# Altium footprint library pcb_components.PcbLib: 10 footprints
Each footprint in its own frame and in the unit in brackets; x right, y up, seen from the top. Pads: shape width x height; smd on the part's side, far side on the other; paste and mask are expansions set on the pad; w line width, h text height; cw(c..) or ccw(c..) is an arc to the next point about the centre after c.
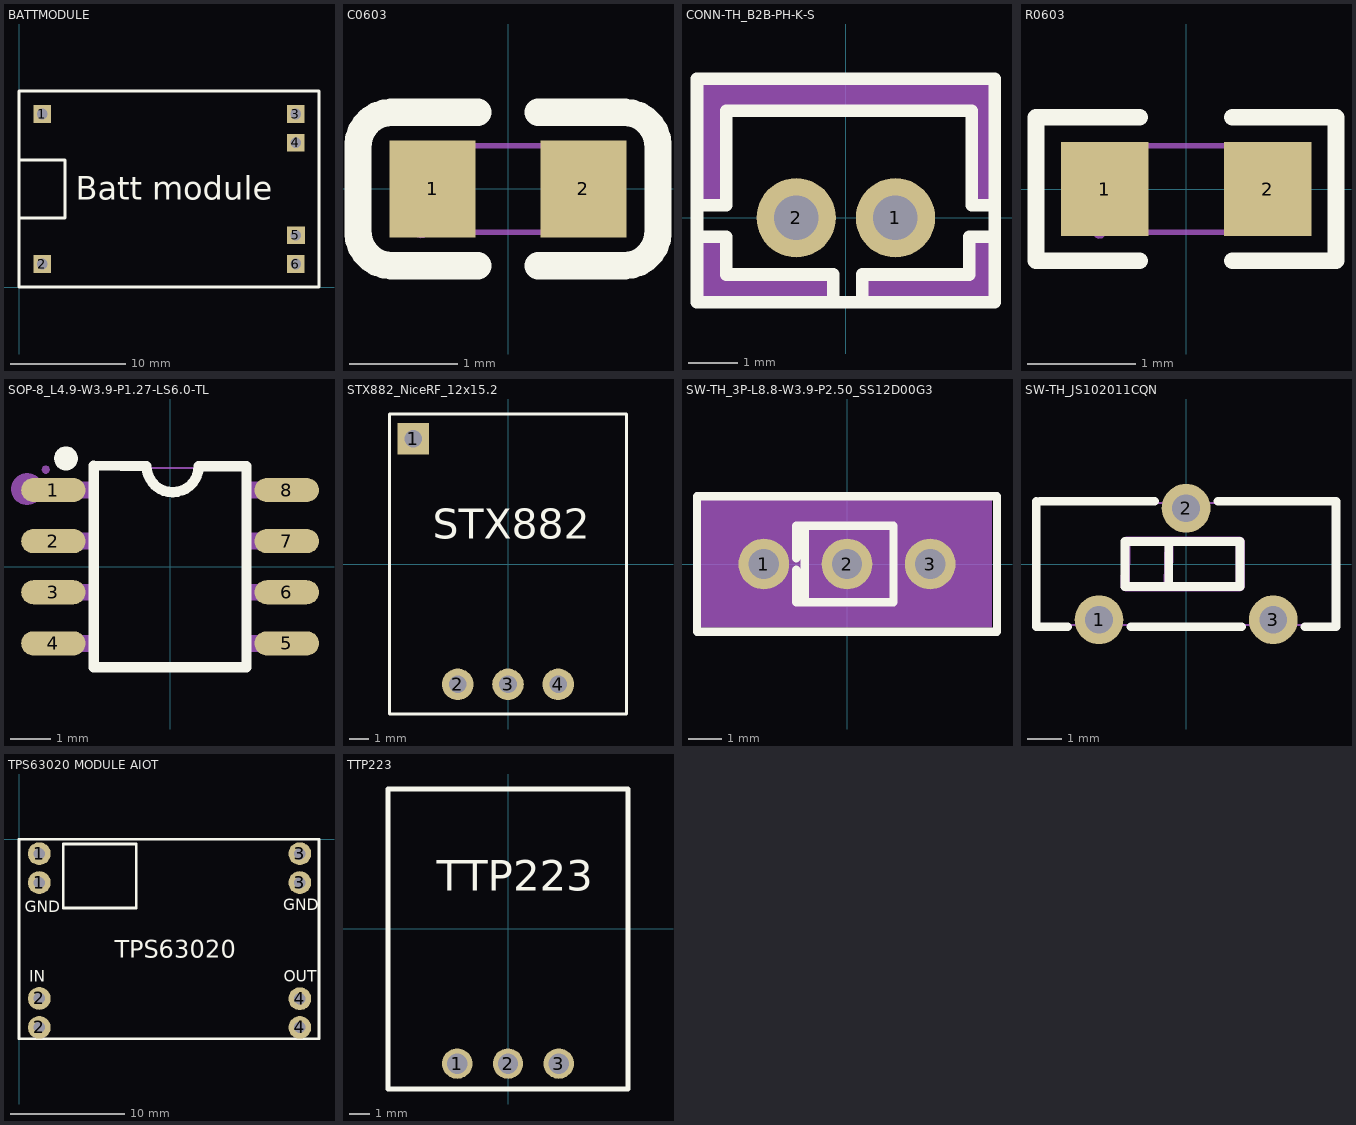
[diagram p0: the footprints below, top view; thin cyan lines are the x and y axes]

## BATTMODULE [mil]
pads (6):
  rect 60x60 hole 36 paste-99999 mask+4: 1(78.8,590.5) 2(78.8,78.7) 3(944.9,590.5) 4(944.9,492.1) 5(945,177.1) 6(944.9,78.7)
Top Overlay:
  lines w10: 0,236.2 157.5,236.2 157.5,433.1 0,433.1 ; 39.4,0 0,0 ; 0,0 1023.6,0 1023.6,669.3 0,669.3 0,0
  text "Batt module" at 193,298 h80

## C0603 [mil]
pads (2):
  rect 31.5x35.4 smd: 1(-27.6,0) 2(27.5,0)
Top Overlay:
  lines w10: -11.1,-28 -42.6,-28 -45.3,-27.7 -47.9,-26.8 -50.2,-25.3 -52.1,-23.4 -53.6,-21.1 -54.5,-18.5 -54.8,-15.8 -54.8,15.7 -54.5,18.4 -53.6,21 -52.1,23.3 -50.2,25.3 -47.9,26.7 -45.3,27.6 -42.6,27.9 -11.1,27.9 ; 11,-28 42.5,-28 45.2,-27.7 47.8,-26.8 50.1,-25.3 52,-23.4 53.5,-21.1 54.4,-18.5 54.7,-15.8 54.7,15.7 54.4,18.4 53.5,21 52,23.3 50.1,25.2 47.8,26.7 45.2,27.6 42.5,27.9 11,27.9
Mechanical 7:
  lines w2: -31.5,-15.8 31.5,-15.8 31.5,15.7 -31.5,15.7 -31.5,-15.8
Mechanical 8:
  region: -29.2,-15.8 -29.6,-17.1 -30.6,-17.9 -31.9,-18.1 -33.1,-17.6 -33.8,-16.5 -33.8,-15.1 -33.1,-14 -31.9,-13.5 -30.6,-13.6 -29.6,-14.5
Mechanical 9:
  region: 31.5,-15.8 31.5,15.7 19.6,15.7 19.6,-15.8
  region: -31.5,-15.8 -31.5,15.7 -19.7,15.7 -19.7,-15.8

## CONN-TH_B2B-PH-K-S [mil]
pads (2):
  round 63 hole 35.4: 1(39.4,0) 2(-39.4,0)
Top Overlay:
  lines w10: -115,-15 -95,-15 -95,-45 -10,-45 -10,-65 ; -115,10 -95,10 -95,85 100,85 100,10 115,10 ; 13.1,-65 13.1,-45 98.1,-45 98.1,-15 118.1,-15 ; -118.1,-66.9 -118.1,110.3 118.1,110.3 118.1,-66.9 -118.1,-66.9
Mechanical 6:
  region: -10,-45 -10,-65 -115,-65 -115,-15 -95,-15 -95,-45
  region: 118.1,-15 98.1,-15 98.1,-45 13.1,-45 13.1,-65 120,-65
  region: 115,10 100,10 100,85 -95,85 -95,10 -115,10 -115,110 115,110
Mechanical 7:
  lines w2: -116.1,-66.9 116.1,-66.9 116.1,110.3 -116.1,110.3 -116.1,-66.9
Mechanical 8:
  region: 118.5,110.3 118.1,109 117.1,108.1 115.8,107.9 114.6,108.5 113.9,109.6 113.9,110.9 114.6,112 115.8,112.6 117.1,112.4 118.1,111.5
Mechanical 9:
  region: -29.5,-9.8 -49.2,-9.8 -49.2,9.9 -29.5,9.9
  region: 49.2,-9.8 29.5,-9.8 29.5,9.9 49.2,9.9

## R0603 [mil]
pads (2):
  rect 31.8x34 smd paste-3937 mask+2: 1(-29.6,0) 2(29.7,0)
Top Overlay:
  lines w6: -16.8,-26 -54.5,-26 -54.5,26 -16.8,26 ; 16.8,-26 54.5,-26 54.5,26 16.8,26
Top Paste:
  region: -47,-17.7 -15.5,-17.7 -13.6,-15.7 -13.6,-6.8 -28.1,-6.8 -28.1,6.2 -13.6,6.2 -13.6,15.8 -15.5,17.7 -47,17.7 -49,15.8 -49,-15.7
  region: 47.1,17.7 15.6,17.7 13.6,15.8 13.6,6.8 28.2,6.8 28.2,-6.2 13.6,-6.2 13.6,-15.7 15.6,-17.7 47.1,-17.7 49,-15.7 49,15.8
Mechanical 7:
  lines w2: -31.5,-15.7 31.5,-15.7 31.5,15.8 -31.5,15.8 -31.5,-15.7
Mechanical 8:
  region: -29.1,-15.7 -29.5,-17 -30.5,-17.9 -31.8,-18.1 -33,-17.5 -33.7,-16.4 -33.7,-15.1 -33,-13.9 -31.8,-13.4 -30.5,-13.6 -29.5,-14.5
Mechanical 9:
  region: 31.5,-15.7 31.5,15.8 19.7,15.8 19.7,-15.7
  region: -31.5,-15.7 -31.5,15.8 -19.7,15.8 -19.7,-15.7

## SOP-8_L4.9-W3.9-P1.27-LS6.0-TL [mil]
pads (8):
  oval 63x23.6 smd: 1(-114.2,75) 2(-114.2,25) 3(-114.2,-25) 4(-114.2,-75) 5(114.2,-75) 6(114.2,-25) 7(114.2,25) 8(114.2,75)
Top Overlay:
  lines w10: -75,99 -23,98.4 -22.6,94 -21.5,89.7 -19.6,85.7 -17,82 -13.9,78.9 -10.3,76.3 -6.2,74.4 -1.9,73.3 2.5,72.9 6.9,73.3 11.2,74.5 15.2,76.3 18.9,78.9 22,82 24.6,85.7 26.4,89.7 27.6,94 28,98.4 74.8,98.4 74.8,-98.4 -74.8,-98.4 -74.8,98.4
  lines w11.8: -96,105.9 -96.4,103.9 -97.4,102.1 -99,100.8 -100.9,100.1 -103,100.1 -104.9,100.8 -106.5,102.2 -107.5,103.9 -107.8,106 -107.5,108 -106.5,109.7 -104.9,111.1 -103,111.8 -100.9,111.8 -99,111.1 -97.4,109.8 -96.4,108 -96,106
Mechanical 6:
  lines w15.7: -147.9,76 -147.5,73.6 -146.4,71.4 -144.6,69.6 -142.5,68.5 -140,68.1 -137.6,68.5 -135.4,69.6 -133.7,71.4 -132.5,73.6 -132.1,76 -132.5,78.4 -133.7,80.6 -135.4,82.4 -137.6,83.5 -140,83.9 -142.5,83.5 -144.6,82.4 -146.4,80.6 -147.5,78.4 -147.9,76
Mechanical 7:
  lines w2: -76.8,-96.5 76.7,-96.5 76.7,96.5 -76.8,96.5 -76.8,-96.5
Mechanical 8:
  region: -117.7,95 -118.1,93.3 -119.2,91.9 -120.8,91.2 -122.5,91.2 -124.1,91.9 -125.2,93.3 -125.6,95 -125.2,96.7 -124.1,98.1 -122.5,98.8 -120.8,98.8 -119.2,98.1 -118.1,96.7
Mechanical 9:
  region: -121.6,-66.7 -88.7,-66.7 -88.7,-83.3 -121.6,-83.3
  region: -121.6,-16.7 -88.7,-16.7 -88.7,-33.3 -121.6,-33.3
  region: -121.6,33.3 -88.7,33.3 -88.7,16.7 -121.6,16.7
  region: -121.6,83.3 -88.7,83.3 -88.7,66.7 -121.6,66.7
  region: 121.4,66.7 88.5,66.7 88.5,83.3 121.4,83.3
  region: 121.4,16.7 88.5,16.7 88.5,33.3 121.4,33.3
  region: 121.4,-33.3 88.5,-33.3 88.5,-16.7 121.4,-16.7
  region: 121.4,-83.3 88.5,-83.3 88.5,-66.7 121.4,-66.7
Mechanical 10:
  region: -89,-67 -76,-67 -76,-83 -89,-83
  region: -89,-17 -76,-17 -76,-33 -89,-33
  region: -89,33 -76,33 -76,17 -89,17
  region: -89,83 -76,83 -76,67 -89,67
  region: 89,67 76,67 76,83 89,83
  region: 89,17 76,17 76,33 89,33
  region: 89,-33 76,-33 76,-17 89,-17
  region: 89,-83 76,-83 76,-67 89,-67

## STX882_NiceRF_12x15.2 [mil]
pads (4):
  rect 63x63 hole 35: 1(-189,250)
  round 63 hole 35: 2(-100,-240) 3(0,-240) 4(100,-240)
Top Overlay:
  lines w6: -236,-299 236,-299 236,299 -236,299 -236,-299
  text "STX882" at -150,50 h60

## SW-TH_3P-L8.8-W3.9-P2.50_SS12D00G3 [mil]
pads (3):
  round 60 hole 36 paste-99999 mask+2: 1(-98.4,0) 2(0,0) 3(98.4,0)
Top Overlay:
  lines w10: -60,-6.7 -60,-45 -50,-45 ; -60,6.8 -60,45 -46.6,45 ; -50,-45 55,-45 55,45 -50,45 -50,-45 ; -177.5,-80 177.5,-80 177.5,80 -177.5,80 -177.5,-80
Mechanical 6:
  region: -65,-45 -65,50 -55,50 -55,-40 -60,-40
  region: -65,-40 50,-40 50,40 -55,40 -55,50 55,50 60,50 60,-50 -65,-50
  region: -45,-40 -35,-40 -35,45 -45,45
Mechanical 7:
  region: -175,-75 -175,78.6 171.5,78.6 171.5,-75
Mechanical 8:
  region: -173.8,-75 -174.2,-75.8 -175,-76.1 -175.8,-75.8 -176.2,-75 -175.8,-74.1 -175,-73.8 -174.2,-74.1
Mechanical 9:
  region: -108.3,5.9 -88.6,5.9 -88.6,-5.9 -108.3,-5.9
  region: -9.8,5.9 9.8,5.9 9.8,-5.9 -9.8,-5.9
  region: 88.6,5.9 108.3,5.9 108.3,-5.9 88.6,-5.9

## SW-TH_JS102011CQN [mil]
pads (3):
  round 55.1 hole 31.5: 1(-98.4,-63) 2(0,63) 3(98.4,-63)
Top Overlay:
  lines w10: -169.3,70.9 -169.3,-70.9 -134.2,-70.9 ; -165.3,70.9 -35.8,70.9 ; -62.6,-70.9 62.6,-70.9 ; -19.7,-23.6 -19.7,23.6 ; 35.8,70.9 169.3,70.9 169.3,-70.9 134.2,-70.9 ; -68.9,-25.6 -68.9,25.6 61,25.6 61,-25.6 -68.9,-25.6
Mechanical 6:
  region: -68.1,30.6 61,30.6 63,30.2 64.6,29.1 65.7,27.5 66,25.6 66,-25.6 65.7,-27.5 64.6,-29.1 63,-30.2 61,-30.6 -68.9,-30.6 -70.8,-30.2 -72.4,-29.1 -73.5,-27.5 -73.9,-25.6 -73.5,-23.7 -72.4,-22.1 -70.8,-21 -68.9,-20.6 56,-20.6 56,20.6 -68.1,20.6 -70,21 -71.6,22.1 -72.7,23.7 -73.1,25.6 -72.7,27.5 -71.6,29.1 -70,30.2
  region: -14.3,25.9 -15.1,-23.7 -15.5,-25.6 -16.6,-27.2 -18.3,-28.2 -20.2,-28.5 -22.1,-28.1 -23.7,-27 -24.7,-25.4 -25.1,-23.5 -24.3,26.1 -23.9,28 -22.7,29.6 -21.1,30.6 -19.2,30.9 -17.3,30.5 -15.7,29.4 -14.6,27.8 -14.3,25.9
  region: -62.9,24.1 -63.7,-25.5 -64.1,-27.4 -65.3,-29 -66.9,-30.1 -68.8,-30.4 -70.7,-30 -72.3,-28.9 -73.4,-27.3 -73.7,-25.4 -72.9,24.2 -72.5,26.2 -71.4,27.8 -69.8,28.8 -67.9,29.2 -65.9,28.8 -64.3,27.6 -63.3,26
Mechanical 7:
  lines w2: -167.3,-68.9 -167.3,68.9 167.3,68.9 167.3,-68.9 -167.3,-68.9
Mechanical 8:
  region: -164.9,-68.9 -165.3,-70.2 -166.3,-71 -167.6,-71.2 -168.9,-70.7 -169.6,-69.6 -169.6,-68.2 -168.9,-67.1 -167.6,-66.6 -166.3,-66.7 -165.3,-67.6
Mechanical 9:
  region: 88.6,-57.1 108.3,-57.1 108.3,-68.9 88.6,-68.9
  region: -9.8,68.9 9.9,68.9 9.9,57.1 -9.8,57.1
  region: -108.2,-57.1 -88.6,-57.1 -88.6,-68.9 -108.2,-68.9

## TPS63020 MODULE AIOT [mil]
pads (8):
  round 78.7 hole 39.4: 1(70,-150) 1(70,-50) 2(70,-650) 2(70,-550) 3(970,-150) 3(970,-50) 4(970,-650) 4(970,-551)
Top Overlay:
  lines w10: 0,-689.4 1036.2,-689.4 1036.2,0 0,0 0,-689.4 ; 153,-237 405,-237 405,-16 153,-16 153,-237
  text "GND" at 912,-246 h39.4
  text "GND" at 20,-253 h39.4
  text "OUT" at 914,-492 h39.4
  text "IN" at 35,-492 h39.4
  text "TPS63020" at 330,-410 h60

## TTP223 [mil]
pads (3):
  round 60 hole 40.2: 1(-100,-265) 2(0,-265) 3(100,-265)
Top Overlay:
  lines w10: -236.2,-315 -236.2,275.5 236.2,275.5 236.2,-315 -236.2,-315
  text "TTP223" at -140,75 h60